# EAGLE library part SI8241/8244 (library Audio-Power-amlifier V.2.0)
The Si824x isolated driver family combines two isolated drivers in a single package. The Si8241/44 are high-side/low-side drivers specifically targeted at high-power (>30 W) audio applications. Versions with peak output currents of 0.5 A (Si8241) and 4.0 A (Si8244) are available. All drivers operate with a maximum supply voltage of 24 V.
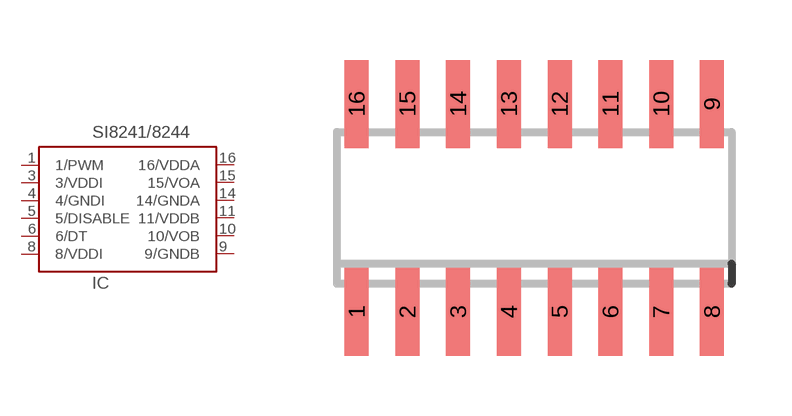
[diagram p257: symbol with the pads of SOIC16N; footprint SOIC16N]

Designator prefix IC

## SI8241/8244  [SOIC16N]
1  1/PWM  in
3  3/VDDI  in
4  4/GNDI  in
5  5/DISABLE  out
6  6/DT  in
8  8/VDDI  in
9  9/GNDB  pwr
10  10/VOB  out
11  11/VDDB  pwr
14  14/GNDA  pwr
15  15/VOA  out
16  16/VDDA  pwr

## Footprint SOIC16N (pad centres in mm)
SOIC16N SMALL OUTLINE INTEGRATED CIRCUIT NARROW
smd 0.6 x 2.2: 1 -4.445,-2.6; 2 -3.175,-2.6; 3 -1.905,-2.6; 4 -0.635,-2.6; 5 0.635,-2.6; 6 1.905,-2.6; 7 3.175,-2.6; 8 4.445,-2.6; 9 4.445,2.6; 10 3.175,2.6; 11 1.905,2.6; 12 0.635,2.6; 13 -0.635,2.6; 14 -1.905,2.6; 15 -3.175,2.6; 16 -4.445,2.6